# Altium schematic symbol library 693071020811.SchLib: 2 symbols
Pins are listed as number, name and electrical type; pins without a type are passive.

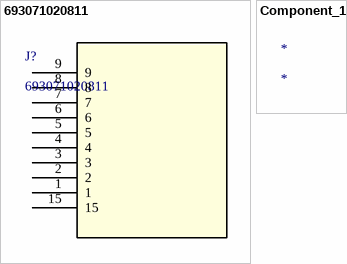
[diagram p0: symbols 693071020811 to Component_1]

## 693071020811
designator J?
No Description Available; Mfr_Name: Wurth Electronics; Copyright: Copyright (C) 2022 Ultra Librarian. All rights reserved.; Manufacturer_Part_Number: 693071020811; Digi-Key_Part_Number_1: 732-693071020811TR-ND; Digi-Key_Part_Number_2: 732-693071020811CT-ND; Digi-Key_Part_Number_3: 732-693071020811DKR-ND; RefDes: RefDes; Type: DEV
footprint CONN9_020811_WRE
pins: 1, 2, 3, 4, 5, 6, 7, 8, 9, 15

## Component_1
designator *